# Altium integrated library WE-CMB_HC_rev15a.intlib: 4 symbols
Pins are listed as number, name and electrical type; pins without a type are passive.

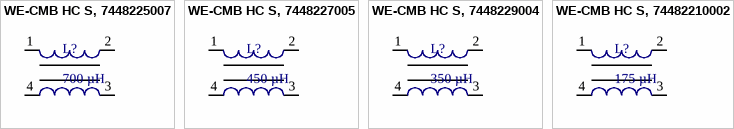
[diagram p0: symbols WE-CMB HC S, 7448225007 to WE-CMB HC S, 74482210002]

## WE-CMB HC S, 7448225007
designator L?, comment 700 µH
THT Common Mode Power Line Choke WE-CMB HC, L=700 µH; partNo: 7448225007; Manufacturer: Würth Elektronik eiSos GmbH; Inductance: 700 µH; ComponentLink1Description: Manufacturer; ComponentLink1URL: http://www.we-online.de; Created by: Christin Zierenner; Created Date: March 2010; ComponentLink2Description: Datasheet; ComponentLink2URL: http://www.we-online.de/katalog/media/pdf/7448225007.pdf
footprint WE-CMB HC S (THT Inductor, 4-Leads, Body 18,5x14,5mm)
pins: 1, 2, 3, 4

## WE-CMB HC S, 7448227005
designator L?, comment 450 µH
THT Common Mode Power Line Choke WE-CMB HC, L=450 µH; partNo: 7448227005; Manufacturer: Würth Elektronik eiSos GmbH; Inductance: 450 µH; ComponentLink1Description: Manufacturer; ComponentLink1URL: http://www.we-online.de; Created by: Christin Zierenner; Created Date: March 2010; ComponentLink2Description: Datasheet; ComponentLink2URL: http://www.we-online.de/katalog/media/pdf/7448227005.pdf
footprint WE-CMB HC S (THT Inductor, 4-Leads, Body 18,5x14,5mm)
pins: 1, 2, 3, 4

## WE-CMB HC S, 7448229004
designator L?, comment 350 µH
THT Common Mode Power Line Choke WE-CMB HC, L=350 µH; partNo: 7448229004; Manufacturer: Würth Elektronik eiSos GmbH; Inductance: 350 µH; ComponentLink1Description: Manufacturer; ComponentLink1URL: http://www.we-online.de; Created by: Christin Zierenner; Created Date: March 2010; ComponentLink2Description: Datasheet; ComponentLink2URL: http://www.we-online.de/katalog/media/pdf/7448229004.pdf
footprint WE-CMB HC S (THT Inductor, 4-Leads, Body 18,5x14,5mm)
pins: 1, 2, 3, 4

## WE-CMB HC S, 74482210002
designator L?, comment 175 µH
THT Common Mode Power Line Choke WE-CMB HC, L=175 µH; partNo: 74482210002; Manufacturer: Würth Elektronik eiSos GmbH; Inductance: 175 µH; ComponentLink1Description: Manufacturer; ComponentLink1URL: http://www.we-online.de; Created by: Christin Zierenner; Created Date: March 2010; ComponentLink2Description: Datasheet; ComponentLink2URL: http://www.we-online.de/katalog/media/pdf/74482210002.pdf
footprint WE-CMB HC S (THT Inductor, 4-Leads, Body 18,5x14,5mm)
pins: 1, 2, 3, 4